# Altium footprint library PGA17057.PcbLib: 1 footprints
Each footprint in its own frame and in the unit in brackets; x right, y up, seen from the top. Pads: shape width x height; smd on the part's side, far side on the other; paste and mask are expansions set on the pad; w line width, h text height; cw(c..) or ccw(c..) is an arc to the next point about the centre after c.
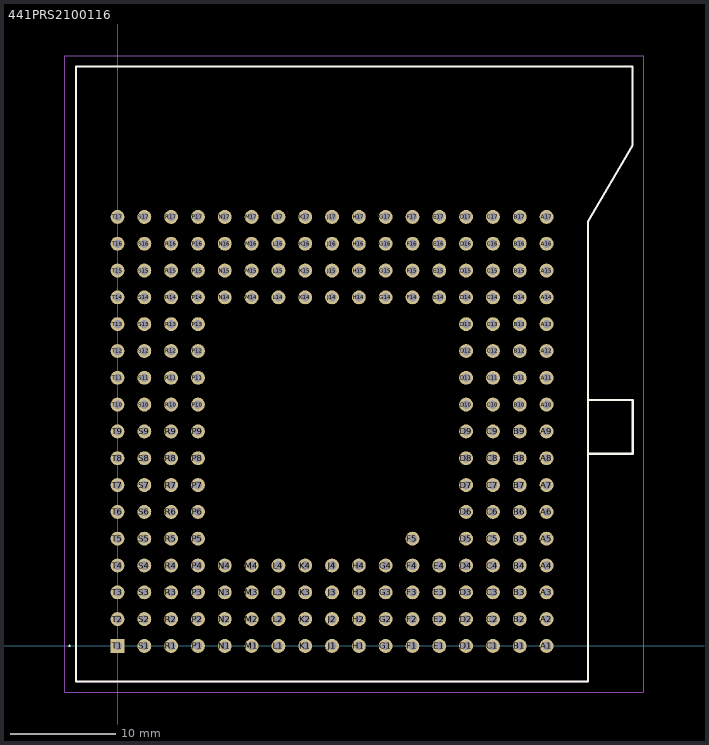
[diagram p0: the footprint, top view; thin cyan lines are the x and y axes]

## 441PRS2100116 [mm]
pads (209):
  round 1.316 hole 0.81: A1(40.64,0) A2(40.64,2.54) A3(40.64,5.08) A4(40.64,7.62) A5(40.64,10.16) A6(40.64,12.7) A7(40.64,15.24) A8(40.64,17.78) A9(40.64,20.32) A10(40.64,22.86) A11(40.64,25.4) A12(40.64,27.94) A13(40.64,30.48) A14(40.64,33.02) A15(40.64,35.56) A16(40.64,38.1) A17(40.64,40.64) B1(38.1,0) B2(38.1,2.54) B3(38.1,5.08) B4(38.1,7.62) B5(38.1,10.16) B6(38.1,12.7) B7(38.1,15.24) B8(38.1,17.78) B9(38.1,20.32) B10(38.1,22.86) B11(38.1,25.4) B12(38.1,27.94) B13(38.1,30.48) B14(38.1,33.02) B15(38.1,35.56) B16(38.1,38.1) B17(38.1,40.64) C1(35.56,0) C2(35.56,2.54) C3(35.56,5.08) C4(35.56,7.62) C5(35.56,10.16) C6(35.56,12.7) C7(35.56,15.24) C8(35.56,17.78) C9(35.56,20.32) C10(35.56,22.86) C11(35.56,25.4) C12(35.56,27.94) C13(35.56,30.48) C14(35.56,33.02) C15(35.56,35.56) C16(35.56,38.1) C17(35.56,40.64) D1(33.02,0) D2(33.02,2.54) D3(33.02,5.08) D4(33.02,7.62) D5(33.02,10.16) D6(33.02,12.7) D7(33.02,15.24) D8(33.02,17.78) D9(33.02,20.32) D10(33.02,22.86) D11(33.02,25.4) D12(33.02,27.94) D13(33.02,30.48) D14(33.02,33.02) D15(33.02,35.56) D16(33.02,38.1) D17(33.02,40.64) E1(30.48,0) E2(30.48,2.54) E3(30.48,5.08) E4(30.48,7.62) E14(30.48,33.02) E15(30.48,35.56) E16(30.48,38.1) E17(30.48,40.64) F1(27.94,0) F2(27.94,2.54) F3(27.94,5.08) F4(27.94,7.62) F5(27.94,10.16) F14(27.94,33.02) F15(27.94,35.56) F16(27.94,38.1) F17(27.94,40.64) G1(25.4,0) G2(25.4,2.54) G3(25.4,5.08) G4(25.4,7.62) G14(25.4,33.02) G15(25.4,35.56) G16(25.4,38.1) G17(25.4,40.64) H1(22.86,0) H2(22.86,2.54) H3(22.86,5.08) H4(22.86,7.62) H14(22.86,33.02) H15(22.86,35.56) H16(22.86,38.1) H17(22.86,40.64) J1(20.32,0) J2(20.32,2.54) J3(20.32,5.08) J4(20.32,7.62) J14(20.32,33.02) J15(20.32,35.56) J16(20.32,38.1) J17(20.32,40.64) K1(17.78,0) K2(17.78,2.54) K3(17.78,5.08) K4(17.78,7.62) K14(17.78,33.02) K15(17.78,35.56) K16(17.78,38.1) K17(17.78,40.64) L1(15.24,0) L2(15.24,2.54) L3(15.24,5.08) L4(15.24,7.62) L14(15.24,33.02) L15(15.24,35.56) L16(15.24,38.1) L17(15.24,40.64) M1(12.7,0) M2(12.7,2.54) M3(12.7,5.08) M4(12.7,7.62) M14(12.7,33.02) M15(12.7,35.56) M16(12.7,38.1) M17(12.7,40.64) N1(10.16,0) N2(10.16,2.54) N3(10.16,5.08) N4(10.16,7.62) N14(10.16,33.02) N15(10.16,35.56) N16(10.16,38.1) N17(10.16,40.64) P1(7.62,0) P2(7.62,2.54) P3(7.62,5.08) P4(7.62,7.62) P5(7.62,10.16) P6(7.62,12.7) P7(7.62,15.24) P8(7.62,17.78) P9(7.62,20.32) P10(7.62,22.86) P11(7.62,25.4) P12(7.62,27.94) P13(7.62,30.48) P14(7.62,33.02) P15(7.62,35.56) P16(7.62,38.1) P17(7.62,40.64) R1(5.08,0) R2(5.08,2.54) R3(5.08,5.08) R4(5.08,7.62) R5(5.08,10.16) R6(5.08,12.7) R7(5.08,15.24) R8(5.08,17.78) R9(5.08,20.32) R10(5.08,22.86) R11(5.08,25.4) R12(5.08,27.94) R13(5.08,30.48) R14(5.08,33.02) R15(5.08,35.56) R16(5.08,38.1) R17(5.08,40.64) S1(2.54,0) S2(2.54,2.54) S3(2.54,5.08) S4(2.54,7.62) S5(2.54,10.16) S6(2.54,12.7) S7(2.54,15.24) S8(2.54,17.78) S9(2.54,20.32) S10(2.54,22.86) S11(2.54,25.4) S12(2.54,27.94) S13(2.54,30.48) S14(2.54,33.02) S15(2.54,35.56) S16(2.54,38.1) S17(2.54,40.64) T2(0,2.54) T3(0,5.08) T4(0,7.62) T5(0,10.16) T6(0,12.7) T7(0,15.24) T8(0,17.78) T9(0,20.32) T10(0,22.86) T11(0,25.4) T12(0,27.94) T13(0,30.48) T14(0,33.02) T15(0,35.56) T16(0,38.1) T17(0,40.64)
  rect 1.316x1.316 hole 0.81: T1(0,0)
Top Overlay:
  lines w0.1: -4.6,0 ccw(c-4.55,0) -4.5,0 ccw(c-4.55,0) -4.6,0
  lines w0.2: 44.605,23.29 48.805,23.29 48.805,18.21 44.615,18.21 ; -3.94,-3.38 44.576,-3.38 44.576,40.201 48.775,47.403 48.775,54.9 -3.94,54.9 -3.94,-3.38
Mechanical 13:
  lines w0.1: 44.605,18.21 48.805,18.21 48.805,23.29 44.675,23.29 ; -3.94,-3.38 44.526,-3.38 44.526,40.201 48.8,47.403 48.8,54.35 48.8,54.9 -3.94,54.9 -3.94,-3.38
Mechanical 15:
  lines w0.1: -5,-4.38 49.8,-4.38 49.8,55.9 -5,55.9 -5,-4.38